# Altium footprint library PcbLib1.PcbLib: 2 footprints
Each footprint in its own frame and in the unit in brackets; x right, y up, seen from the top. Pads: shape width x height; smd on the part's side, far side on the other; paste and mask are expansions set on the pad; w line width, h text height; cw(c..) or ccw(c..) is an arc to the next point about the centre after c.
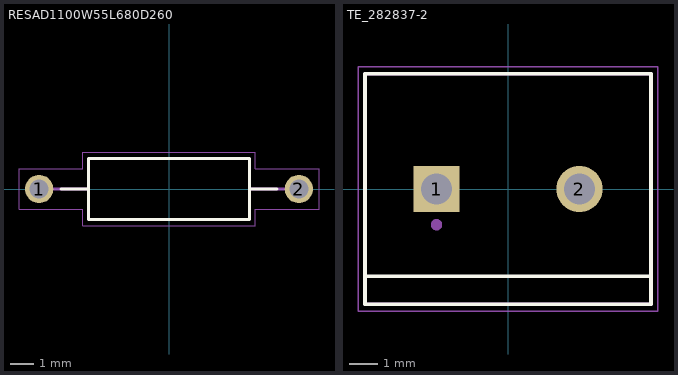
[diagram p0: the footprints below, top view; thin cyan lines are the x and y axes]

## RESAD1100W55L680D260 [mm]
height 2.6
pads (2):
  round 1.2 hole 0.8: 1(-5.5,0) 2(5.5,0)
Top Overlay:
  lines w0.127: -4.58,0 -3.4,0 ; 4.58,0 3.4,0 ; -3.4,0 -3.4,-1.3 3.4,-1.3 3.4,0 ; -3.4,0 -3.4,1.3 3.4,1.3 3.4,0
Mechanical 13:
  lines w0.127: -4.9,0 -3.4,0 ; 4.9,0 3.4,0 ; -3.4,0 -3.4,-1.3 3.4,-1.3 3.4,0 ; -3.4,0 -3.4,1.3 3.4,1.3 3.4,0
Mechanical 15:
  lines w0.05: -6.35,-0.85 -6.35,0.85 -3.65,0.85 -3.65,1.55 3.65,1.55 3.65,0.85 6.35,0.85 6.35,-0.85 3.65,-0.85 3.65,-1.55 -3.65,-1.55 -3.65,-0.85 -6.35,-0.85
3D body "step_temp.STEP": height 2.6, standoff -25.53, extent -5.775,-1.3 5.775,1.3

## TE_282837-2 [mm]
pads (2):
  rect 1.65x1.65 / inner round 1.65 / far side rect 1.65x1.65 hole 1.1: 1(-2.54,0)
  round 1.65 hole 1.1: 2(2.54,0)
Top Overlay:
  lines w0.127: -5.08,-3.1 5.08,-3.1 ; -5.08,-3.1 -5.08,4.1 5.08,4.1 5.08,-3.1 ; -5.08,-3.1 -5.08,-4.1 5.08,-4.1 5.08,-3.1
Mechanical 13:
  circle w0.2: c-2.54,-1.27 r0.1
  lines w0.127: -5.08,-4.1 -5.08,4.1 5.08,4.1 5.08,-4.1 -5.08,-4.1
Mechanical 15:
  lines w0.05: -5.33,-4.35 -5.33,4.35 5.33,4.35 5.33,-4.35 -5.33,-4.35
3D body "step_temp.STEP": height 10, standoff -3.5, extent -5.68,-4.1 5.08,4.1